# Altium schematic symbol library AIWAC_A33_LVDS07_Project_1.SCHLIB: 15 symbols
Pins are listed as number, name and electrical type; pins without a type are passive.

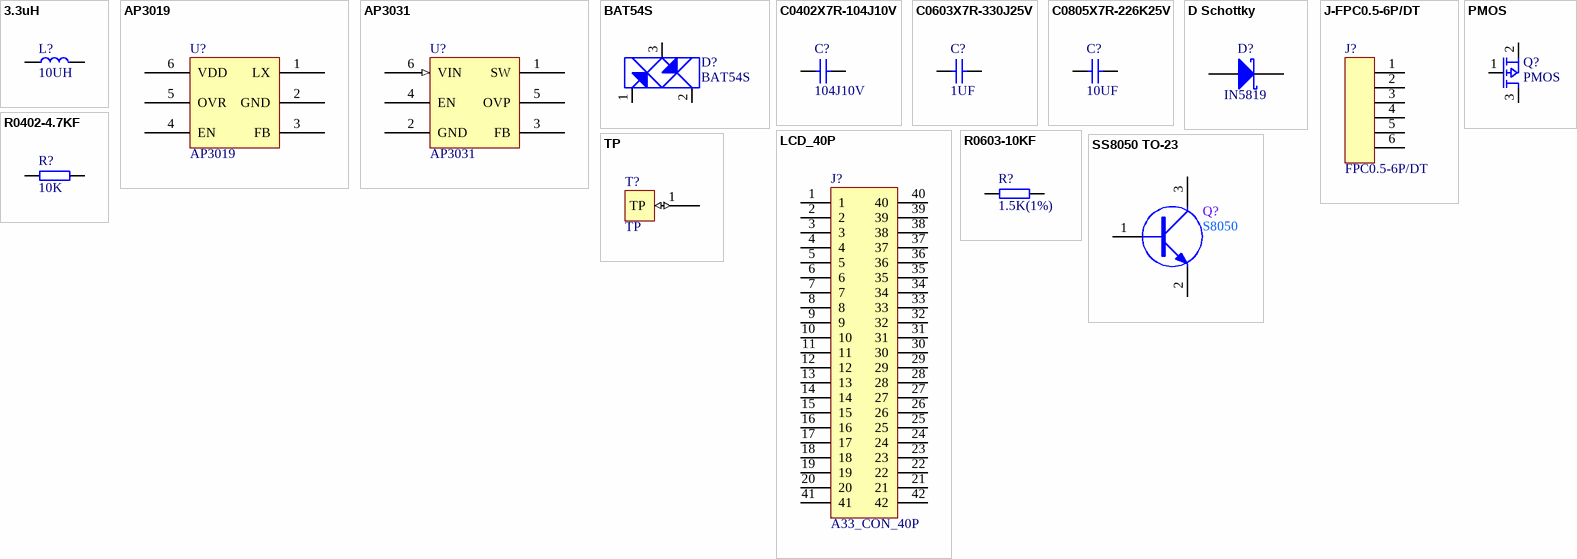
[diagram p0: symbols 3.3uH to TP]

## 3.3uH
designator L?, comment 10UH
贴片电感-屏蔽; 生产商: *; 供应商: *; 备注: *
footprint D1206
pins: 1, 2

## AP3019
designator U?
footprint U-SOT-23-6
pins: 1 LX, 2 GND (power), 3 FB, 4 EN, 5 OVR, 6 VDD (power)

## AP3031
designator U?
footprint U-SOT-23-6
pins: 1 SW, 2 GND (power), 3 FB, 4 EN, 5 OVP, 6 VIN (in)

## BAT54S
designator D?
footprint U-SOT-23-3
pins: 1, 2, 3

## C0402X7R-104J10V
designator C?, comment 104J10V
贴片电容-陶瓷; 规格型号: 100nF±5%_10V_X7R_C0402; 生产商: 风华 三星; 供应商: *; 备注: *
footprint C0402
pins: 1, 2

## C0603X7R-330J25V
designator C?, comment 1UF
贴片电容-陶瓷; 规格型号: 33pF±5%_25V_X7R_C0603; 生产商: 风华 三星; 供应商: *; 备注: *
footprint C0603
pins: 1, 2

## C0805X7R-226K25V
designator C?, comment 10UF
贴片电容-陶瓷; 规格型号: 22uF±10%_25V_X7R_C0805; 生产商: 风华 三星; 供应商: *; 备注: *
footprint C0805
pins: 1, 2

## D Schottky
designator D?, comment IN5819
Schottky Diode; Published: 8-Jun-2000; LatestRevisionDate: 17-Jul-2002; LatestRevisionNote: Re-released for DXP Platform.; PackageReference: SMB; Publisher: Altium Limited; Code_JEDEC: DO-214-AA
footprint SMB (DO-214-AA/SMB; 2 C-Bend Leads; Body 5.3 x 3.6 mm, inc. leads (LxW))
simulation model SKYDIODE (Diode)
signal-integrity model D Schottky
pins: 1 A, 2 K

## J-FPC0.5-6P/DT
designator J?, comment FPC0.5-6P/DT
FPC端子; 规格型号: FPC0.5-6P/DT 6P 脚间距0.5mm 下接触 抽屉式; 货品编码: 样品无编码; 供应商: *; 备注: *
footprint FPC0.5-6P/DT
footprint FPC0.5-6P/DT
pins: 1, 2, 3, 4, 5, 6

## LCD_40P
designator J?, comment A33_CON_40P
LCD_40P
footprint LCD P40 (0.5MM 下接)
pins: 1, 2, 3, 4, 5, 6, 7, 8, 9, 10, 11, 12, 13, 14, 15, 16, 17, 18, 19, 20, 21, 22, 23, 24, 25, 26, 27, 28, 29, 30, 31, 32, 33, 34, 35, 36, 37, 38, 39, 40, 41, 42

## PMOS
designator Q?
贴片MOSFET管; 规格型号: AP2309AGN-HF; 货品编码: 331010; 生产商: Advanced Power; 备注: *; 供应商: *
footprint Q-TO-247
footprint U-SOT-23-3
pins: 1, 2, 3

## R0402-4.7KF
designator R?, comment 10K
贴片电阻-通用
footprint R0402
pins: 1, 2

## R0603-10KF
designator R?, comment 1.5K(1%)
贴片电阻-通用; 生产商: 厚声 国巨; 规格型号: 10K±1%_1/10W_±200ppm_R0603; 备注: *; 供应商: *
footprint R0603
pins: 1, 2

## SS8050 TO-23
designator Q?, comment S8050
三极管; 单价: 0.031
footprint U-SOT-23-3
pins: 1 B, 2 E, 3 C

## TP
designator T?
footprint PAD
pins: 1 TP (io)